# EAGLE library part TPD12S521DBTR (library TDP12S521)
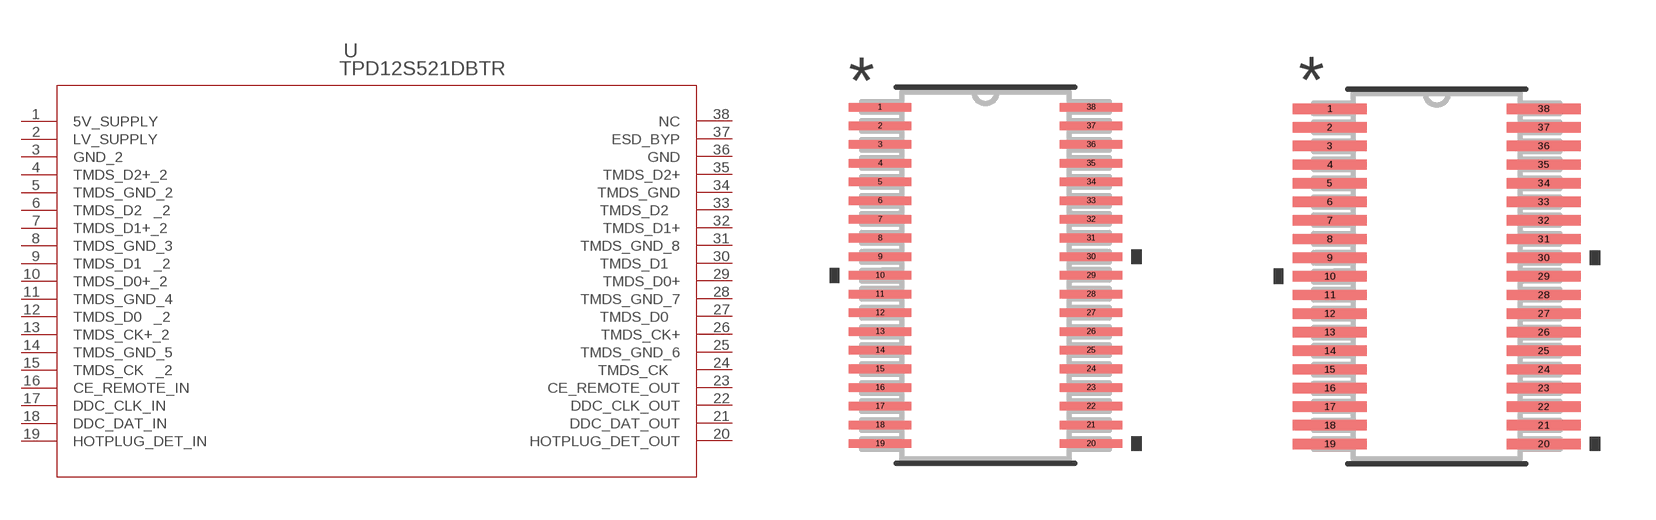
[diagram p0: symbol with the pads of DBT38; footprints DBT38, DBT38-M]

Designator prefix U

## TPD12S521DBTR (MANUFACTURER_PART_NUMBER: TPD12S521DBTR; VENDOR: Texas Instruments)  [DBT38]
1  5V_SUPPLY  out
2  LV_SUPPLY  pas
3  GND_2  pwr
4  TMDS_D2+_2  pas
5  TMDS_GND_2  pwr
6  TMDS_D2_2  pas
7  TMDS_D1+_2  pas
8  TMDS_GND_3  pwr
9  TMDS_D1_2  pas
10  TMDS_D0+_2  pas
11  TMDS_GND_4  pwr
12  TMDS_D0_2  pas
13  TMDS_CK+_2  pas
14  TMDS_GND_5  pwr
15  TMDS_CK_2  pas
16  CE_REMOTE_IN  pas
17  DDC_CLK_IN  pas
18  DDC_DAT_IN  pas
19  HOTPLUG_DET_IN  pas
20  HOTPLUG_DET_OUT  pas
21  DDC_DAT_OUT  pas
22  DDC_CLK_OUT  pas
23  CE_REMOTE_OUT  pas
24  TMDS_CK  pas
25  TMDS_GND_6  pwr
26  TMDS_CK+  pas
27  TMDS_D0  pas
28  TMDS_GND_7  pwr
29  TMDS_D0+  pas
30  TMDS_D1  pas
31  TMDS_GND_8  pwr
32  TMDS_D1+  pas
33  TMDS_D2  pas
34  TMDS_GND  pwr
35  TMDS_D2+  pas
36  GND  pwr
37  ESD_BYP  pas
38  NC  nc

## TPD12S521DBTRDBT38-M (MANUFACTURER_PART_NUMBER: TPD12S521DBTR; VENDOR: Texas Instruments)  [DBT38-M]
Pads as for DBT38

## TPD12S521DBTRDBT38-L (MANUFACTURER_PART_NUMBER: TPD12S521DBTR; VENDOR: Texas Instruments)  [DBT38-L]
Pads as for DBT38

## Footprint DBT38 (pad centres in mm)
smd 1.676 x 0.229: 1 -2.819,4.5; 2 -2.819,4; 3 -2.819,3.5; 4 -2.819,3; 5 -2.819,2.5; 6 -2.819,2; 7 -2.819,1.5; 8 -2.819,1; 9 -2.819,0.5; 10 -2.819,0; 11 -2.819,-0.5; 12 -2.819,-1; 13 -2.819,-1.5; 14 -2.819,-2; 15 -2.819,-2.5; 16 -2.819,-3; 17 -2.819,-3.5; 18 -2.819,-4; 19 -2.819,-4.5; 20 2.819,-4.5; 21 2.819,-4; 22 2.819,-3.5; 23 2.819,-3; 24 2.819,-2.5; 25 2.819,-2; 26 2.819,-1.5; 27 2.819,-1; 28 2.819,-0.5; 29 2.819,0; 30 2.819,0.5; 31 2.819,1; 32 2.819,1.5; 33 2.819,2; 34 2.819,2.5; 35 2.819,3; 36 2.819,3.5; 37 2.819,4; 38 2.819,4.5

## Footprint DBT38-M (pad centres in mm)
smd 1.981 x 0.279: 1 -2.87,4.5; 2 -2.87,4; 3 -2.87,3.5; 4 -2.87,3; 5 -2.87,2.5; 6 -2.87,2; 7 -2.87,1.5; 8 -2.87,1; 9 -2.87,0.5; 10 -2.87,0; 11 -2.87,-0.5; 12 -2.87,-1; 13 -2.87,-1.5; 14 -2.87,-2; 15 -2.87,-2.5; 16 -2.87,-3; 17 -2.87,-3.5; 18 -2.87,-4; 19 -2.87,-4.5; 20 2.87,-4.5; 21 2.87,-4; 22 2.87,-3.5; 23 2.87,-3; 24 2.87,-2.5; 25 2.87,-2; 26 2.87,-1.5; 27 2.87,-1; 28 2.87,-0.5; 29 2.87,0; 30 2.87,0.5; 31 2.87,1; 32 2.87,1.5; 33 2.87,2; 34 2.87,2.5; 35 2.87,3; 36 2.87,3.5; 37 2.87,4; 38 2.87,4.5

## Footprint DBT38-L (pad centres in mm)
smd 1.372 x 0.178: 1 -2.769,4.5; 2 -2.769,4; 3 -2.769,3.5; 4 -2.769,3; 5 -2.769,2.5; 6 -2.769,2; 7 -2.769,1.5; 8 -2.769,1; 9 -2.769,0.5; 10 -2.769,0; 11 -2.769,-0.5; 12 -2.769,-1; 13 -2.769,-1.5; 14 -2.769,-2; 15 -2.769,-2.5; 16 -2.769,-3; 17 -2.769,-3.5; 18 -2.769,-4; 19 -2.769,-4.5; 20 2.769,-4.5; 21 2.769,-4; 22 2.769,-3.5; 23 2.769,-3; 24 2.769,-2.5; 25 2.769,-2; 26 2.769,-1.5; 27 2.769,-1; 28 2.769,-0.5; 29 2.769,0; 30 2.769,0.5; 31 2.769,1; 32 2.769,1.5; 33 2.769,2; 34 2.769,2.5; 35 2.769,3; 36 2.769,3.5; 37 2.769,4; 38 2.769,4.5